# EAGLE library part DRF1268 (library DRF1268)
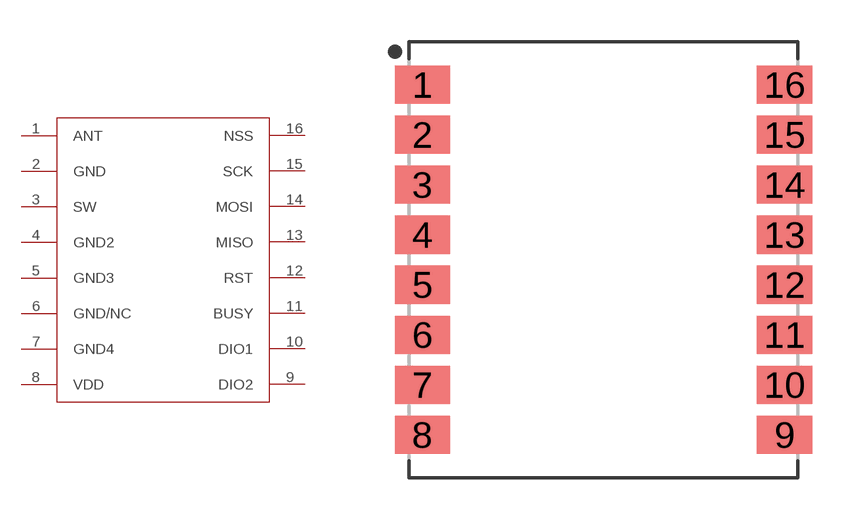
[diagram p0: symbol with the pads of RESCAV180P1570X1400X300-16; footprint RESCAV180P1570X1400X300-16]

Designator prefix -

## DRF1268  [RESCAV180P1570X1400X300-16]
1  ANT
2  GND
3  SW
4  GND2
5  GND3
6  GND/NC
7  GND4
8  VDD
9  DIO2
10  DIO1
11  BUSY
12  RST
13  MISO
14  MOSI
15  SCK
16  NSS

## Footprint RESCAV180P1570X1400X300-16 (pad centres in mm)
16-Chiparray 2-Side Flat, 1.80 mm pitch, 15.70 X 14.00 X 3.00 mm body 16-pin Chiparray 2-Side Flat package with 1.80 mm pitch with body size 15.70 X 14.00 X 3.00 mm
smd 1.982 x 1.372: 1 -6.515,6.3; 2 -6.515,4.5; 3 -6.515,2.7; 4 -6.515,0.9; 5 -6.515,-0.9; 6 -6.515,-2.7; 7 -6.515,-4.5; 8 -6.515,-6.3; 9 6.515,-6.3; 10 6.515,-4.5; 11 6.515,-2.7; 12 6.515,-0.9; 13 6.515,0.9; 14 6.515,2.7; 15 6.515,4.5; 16 6.515,6.3